# Altium schematic symbol library arduino_uno.SchLib: 1 symbol
Pins are listed as number, name and electrical type; pins without a type are passive.

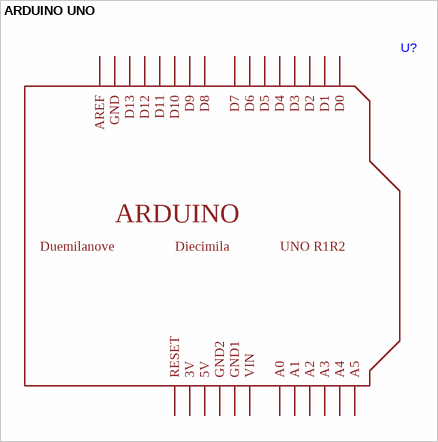
[diagram p0: symbol ARDUINO UNO]

## ARDUINO UNO
designator U?
footprint ARDUINO-UNO
pins: 3V, 5V, A0, A1, A2, A3, A4, A5, AREF, D0, D1, D2, D3, D4, D5, D6, D7, D8, D9, D10, D11, D12, D13, GND, GND1, GND2, RESET, VIN
text: ARDUINO; Duemilanove; Diecimila; UNO R1R2